# Altium footprint library temporary.PcbLib: 61 footprints (part 1 of 4)
Each footprint in its own frame and in the unit in brackets; x right, y up, seen from the top. Pads: shape width x height; smd on the part's side, far side on the other; paste and mask are expansions set on the pad; w line width, h text height; cw(c..) or ccw(c..) is an arc to the next point about the centre after c.
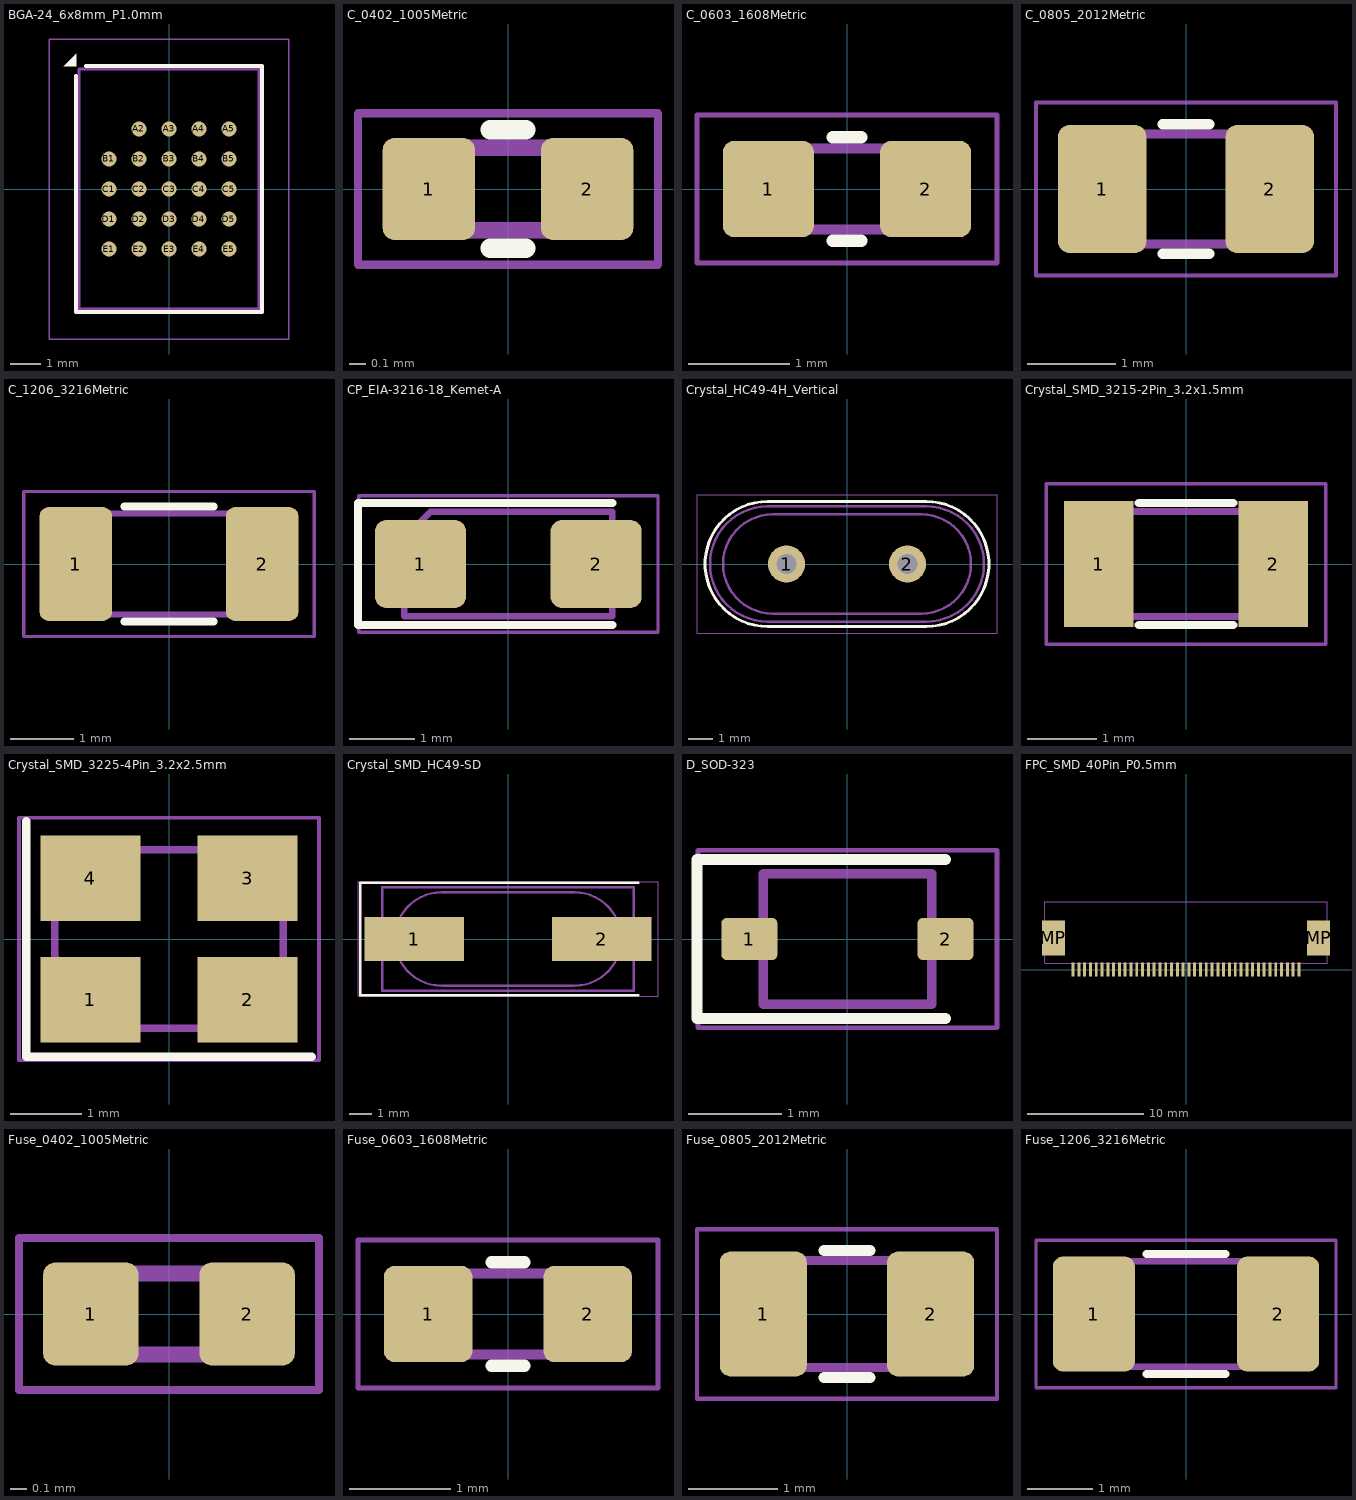
[diagram p0: the footprints below, top view; thin cyan lines are the x and y axes]

## BGA-24_6x8mm_P1.0mm [mm]
pads (24):
  round 0.5 smd: A2(-1,2) A3(0,2) A4(1,2) A5(2,2) B1(-2,1) B2(-1,1) B3(0,1) B4(1,1) B5(2,1) C1(-2,0) C2(-1,0) C3(0,0) C4(1,0) C5(2,0) D1(-2,-1) D2(-1,-1) D3(0,-1) D4(1,-1) D5(2,-1) E1(-2,-2) E2(-1,-2) E3(0,-2) E4(1,-2) E5(2,-2)
Top Overlay:
  region: -3.1,4.1 -3.5,4.1 -3.1,4.5
  lines w0.12: -3.1,3.78 -3.1,-4.1 3.1,-4.1 3.1,4.1 -2.78,4.1
Mechanical 13:
  lines w0.1: -3,-4 3,-4 3,4 -3,4 -3,-4
Mechanical 15:
  lines w0.05: -4,-5 -4,5 4,5 4,-5 -4,-5
3D body "BGA24C100P5X5_600X800X120.step": height 1.2, standoff 0, extent -3,-4 3,4

## C_0402_1005Metric [mm]
pads (2):
  rrect25% 0.56x0.62 smd: 1(-0.48,0) 2(0.48,0)
Top Overlay:
  lines w0.12: -0.108,-0.36 0.108,-0.36 ; -0.108,0.36 0.108,0.36
Mechanical 13:
  lines w0.1: -0.5,-0.25 -0.5,0.25 0.5,0.25 0.5,-0.25 -0.5,-0.25
Mechanical 15:
  lines w0.05: -0.91,-0.46 -0.91,0.46 0.91,0.46 0.91,-0.46 -0.91,-0.46
3D body "C_0402_1005Metric.step": height 0.5, standoff 0, extent -0.5,-0.25 0.5,0.25

## C_0603_1608Metric [mm]
pads (2):
  rrect25% 0.9x0.95 smd: 1(-0.775,0) 2(0.775,0)
Top Overlay:
  lines w0.12: -0.141,-0.51 0.141,-0.51 ; -0.141,0.51 0.141,0.51
Mechanical 13:
  lines w0.1: -0.8,-0.4 -0.8,0.4 0.8,0.4 0.8,-0.4 -0.8,-0.4
Mechanical 15:
  lines w0.05: -1.48,-0.73 1.48,-0.73 1.48,0.73 -1.48,0.73 -1.48,-0.73
3D body "C_0603_1608Metric.step": height 0.8, standoff 0, extent -0.8,-0.4 0.8,0.4

## C_0805_2012Metric [mm]
pads (2):
  rrect25% 1x1.45 smd: 1(-0.95,0) 2(0.95,0)
Top Overlay:
  lines w0.12: -0.261,-0.735 0.261,-0.735 ; -0.261,0.735 0.261,0.735
Mechanical 13:
  lines w0.1: -1,-0.625 -1,0.625 1,0.625 1,-0.625 -1,-0.625
Mechanical 15:
  lines w0.05: -1.7,-0.98 1.7,-0.98 1.7,0.98 -1.7,0.98 -1.7,-0.98
3D body "C_0805_2012Metric.step": height 1.25, standoff 0, extent -1,-0.625 1,0.625

## C_1206_3216Metric [mm]
pads (2):
  rrect25% 1.15x1.8 smd: 1(-1.475,0) 2(1.475,0)
Top Overlay:
  lines w0.12: -0.711,-0.91 0.711,-0.91 ; -0.711,0.91 0.711,0.91
Mechanical 13:
  lines w0.1: -1.6,-0.8 -1.6,0.8 1.6,0.8 1.6,-0.8 -1.6,-0.8
Mechanical 15:
  lines w0.05: -2.3,-1.15 2.3,-1.15 2.3,1.15 -2.3,1.15 -2.3,-1.15
3D body "C_1206_3216Metric.step": height 1.6, standoff 0, extent -1.6,-0.8 1.6,0.8

## CP_EIA-3216-18_Kemet-A [mm]
pads (2):
  rrect25% 1.4x1.35 smd: 1(-1.35,0) 2(1.35,0)
Top Overlay:
  lines w0.12: 1.6,-0.935 -2.31,-0.935 -2.31,0.935 1.6,0.935
Mechanical 13:
  lines w0.1: -1.6,-0.8 -1.6,0.4 -1.2,0.8 1.6,0.8 1.6,-0.8 -1.6,-0.8
Mechanical 15:
  lines w0.05: -2.3,-1.05 2.3,-1.05 2.3,1.05 -2.3,1.05 -2.3,-1.05
3D body "CP_EIA-3216-18_Kemet-A.step": height 1.8, standoff 0, extent -1.6,-0.8 1.6,0.8

## Crystal_HC49-4H_Vertical [mm]
pads (2):
  round 1.5 hole 0.8: 1(-2.44,0) 2(2.44,0)
Top Overlay:
  lines w0.12: -3.2,-2.525 cw(c-3.2,0) -3.2,2.525 3.2,2.525 cw(c3.2,0) 3.2,-2.525 -3.2,-2.525
Mechanical 13:
  lines w0.1: -3.2,-2.325 cw(c-3.2,0) -3.2,2.325 3.2,2.325 cw(c3.2,0) 3.2,-2.325 -3.2,-2.325 ; -3,-2 cw(c-3,0) -3,2 3,2 cw(c3,0) 3,-2 -3,-2
Mechanical 15:
  lines w0.05: -6.05,-2.8 -6.05,2.8 6.05,2.8 6.05,-2.8 -6.05,-2.8
3D body "Crystal_HC49-4H_Vertical.step": height 4.1, standoff -2.9, extent -5.525,-2.325 5.525,2.325

## Crystal_SMD_3215-2Pin_3.2x1.5mm [mm]
pads (2):
  rect 1x1.8 smd: 1(-1.25,0) 2(1.25,0)
Top Overlay:
  lines w0.12: -0.675,-0.875 0.675,-0.875 ; -0.675,0.875 0.675,0.875
Mechanical 13:
  lines w0.1: -1.6,-0.75 1.6,-0.75 1.6,0.75 -1.6,0.75 -1.6,-0.75
Mechanical 15:
  lines w0.05: -2,-1.15 -2,1.15 2,1.15 2,-1.15 -2,-1.15
3D body "User Library-NDK_NX3215SA.STEP": height 0.8, standoff 0, extent -1.6,-0.75 1.6,0.75

## Crystal_SMD_3225-4Pin_3.2x2.5mm [mm]
pads (4):
  rect 1.4x1.2 smd: 1(-1.1,-0.85) 2(1.1,-0.85) 3(1.1,0.85) 4(-1.1,0.85)
Top Overlay:
  lines w0.12: -2,1.65 -2,-1.65 2,-1.65
Mechanical 13:
  lines w0.1: -1.6,-0.25 -0.6,-1.25 1.6,-1.25 1.6,1.25 -1.6,1.25 -1.6,-0.25
Mechanical 15:
  lines w0.05: -2.1,-1.7 2.1,-1.7 2.1,1.7 -2.1,1.7 -2.1,-1.7
3D body "Crystal_SMD_3225-4Pin_3.2x2.5mm.step": height 0.64, standoff 0, extent -1.599,-1.251 1.601,1.25

## Crystal_SMD_HC49-SD [mm]
pads (2):
  rect 4.5x2 smd: 1(-4.25,0) 2(4.25,0)
Top Overlay:
  lines w0.12: 5.9,-2.55 -6.7,-2.55 -6.7,2.55 5.9,2.55
Mechanical 13:
  lines w0.1: -5.7,-2.35 5.7,-2.35 5.7,2.35 -5.7,2.35 -5.7,-2.35 ; -3.015,-2.115 cw(c-3.015,0) -3.015,2.115 3.015,2.115 cw(c3.015,0) 3.015,-2.115 -3.015,-2.115
Mechanical 15:
  lines w0.05: -6.8,-2.6 6.8,-2.6 6.8,2.6 -6.8,2.6 -6.8,-2.6
3D body "Crystal_SMD_HC49-SD.step": height 4, standoff 0, extent -6.25,-2.325 6.25,2.325

## D_SOD-323 [mm]
pads (2):
  rrect25% 0.6x0.45 smd: 1(-1.05,0) 2(1.05,0)
Top Overlay:
  lines w0.12: 1.05,-0.85 -1.61,-0.85 -1.61,0.85 1.05,0.85
Mechanical 13:
  lines w0.1: -0.9,-0.7 -0.9,0.7 0.9,0.7 0.9,-0.7 -0.9,-0.7
Mechanical 15:
  lines w0.05: -1.6,-0.95 -1.6,0.95 1.6,0.95 1.6,-0.95 -1.6,-0.95
3D body "D_SOD-323.step": height 1.1, standoff 0, extent -1.25,-0.625 1.25,0.625

## FPC_SMD_40Pin_P0.5mm [mm]
pads (42):
  rect 0.25x1.2 smd: 1(-9.75,0) 2(-9.25,0) 3(-8.75,0) 4(-8.25,0) 5(-7.75,0) 6(-7.25,0) 7(-6.75,0) 8(-6.25,0) 9(-5.75,0) 10(-5.25,0) 11(-4.75,0) 12(-4.25,0) 13(-3.75,0) 14(-3.25,0) 15(-2.75,0) 16(-2.25,0) 17(-1.75,0) 18(-1.25,0) 19(-0.75,0) 20(-0.25,0) 21(0.25,0) 22(0.75,0) 23(1.25,0) 24(1.75,0) 25(2.25,0) 26(2.75,0) 27(3.25,0) 28(3.75,0) 29(4.25,0) 30(4.75,0) 31(5.25,0) 32(5.75,0) 33(6.25,0) 34(6.75,0) 35(7.25,0) 36(7.75,0) 37(8.25,0) 38(8.75,0) 39(9.25,0) 40(9.75,0)
  rect 2x3 smd: MP(-11.45,2.73) MP(11.45,2.73)
Mechanical 13:
  lines w0.1: -12.2,0.525 -12.2,5.875 12.2,5.875 12.2,0.525 -12.2,0.525
3D body "FPC_SMD_40Pin_P0.5mm v0.step": height 2.01, standoff 0, extent -12.1,-0.23 12.1,5.77

## Fuse_0402_1005Metric [mm]
pads (2):
  rrect25% 0.59x0.64 smd: 1(-0.485,0) 2(0.485,0)
Mechanical 13:
  lines w0.1: -0.5,-0.25 0.5,-0.25 0.5,0.25 -0.5,0.25 -0.5,-0.25
Mechanical 15:
  lines w0.05: -0.93,-0.47 -0.93,0.47 0.93,0.47 0.93,-0.47 -0.93,-0.47
3D body "Fuse_0402_1005Metric.step": height 0.35, standoff 0, extent -0.5,-0.26 0.5,0.26

## Fuse_0603_1608Metric [mm]
pads (2):
  rrect25% 0.875x0.95 smd: 1(-0.787,0) 2(0.787,0)
Top Overlay:
  lines w0.12: -0.163,-0.51 0.163,-0.51 ; -0.163,0.51 0.163,0.51
Mechanical 13:
  lines w0.1: -0.8,-0.4 -0.8,0.4 0.8,0.4 0.8,-0.4 -0.8,-0.4
Mechanical 15:
  lines w0.05: -1.48,-0.73 1.48,-0.73 1.48,0.73 -1.48,0.73 -1.48,-0.73
3D body "Fuse_0603_1608Metric.step": height 0.45, standoff 0, extent -0.8,-0.4 0.8,0.4

## Fuse_0805_2012Metric [mm]
pads (2):
  rrect25% 0.975x1.4 smd: 1(-0.937,0) 2(0.937,0)
Top Overlay:
  lines w0.12: -0.259,-0.71 0.259,-0.71 ; -0.259,0.71 0.259,0.71
Mechanical 13:
  lines w0.1: -1,-0.6 1,-0.6 1,0.6 -1,0.6 -1,-0.6
Mechanical 15:
  lines w0.05: -1.68,-0.95 -1.68,0.95 1.68,0.95 1.68,-0.95 -1.68,-0.95
3D body "Fuse_0805_2012Metric.step": height 0.45, standoff 0, extent -1,-0.625 1,0.625

## Fuse_1206_3216Metric [mm]
pads (2):
  rrect25% 1.25x1.75 smd: 1(-1.4,0) 2(1.4,0)
Top Overlay:
  lines w0.12: -0.602,-0.91 0.602,-0.91 ; -0.602,0.91 0.602,0.91
Mechanical 13:
  lines w0.1: -1.6,-0.8 -1.6,0.8 1.6,0.8 1.6,-0.8 -1.6,-0.8
Mechanical 15:
  lines w0.05: -2.28,-1.12 -2.28,1.12 2.28,1.12 2.28,-1.12 -2.28,-1.12
3D body "Fuse_1206_3216Metric.step": height 0.55, standoff 0, extent -1.6,-0.8 1.6,0.8